# EAGLE library part MTCH6301 (library talons)
MTCH6301 Projected Capacitive Controller 44-pin TQFP package http://www.microchip.com/wwwproducts/Devices.aspx?dDocName=en559101
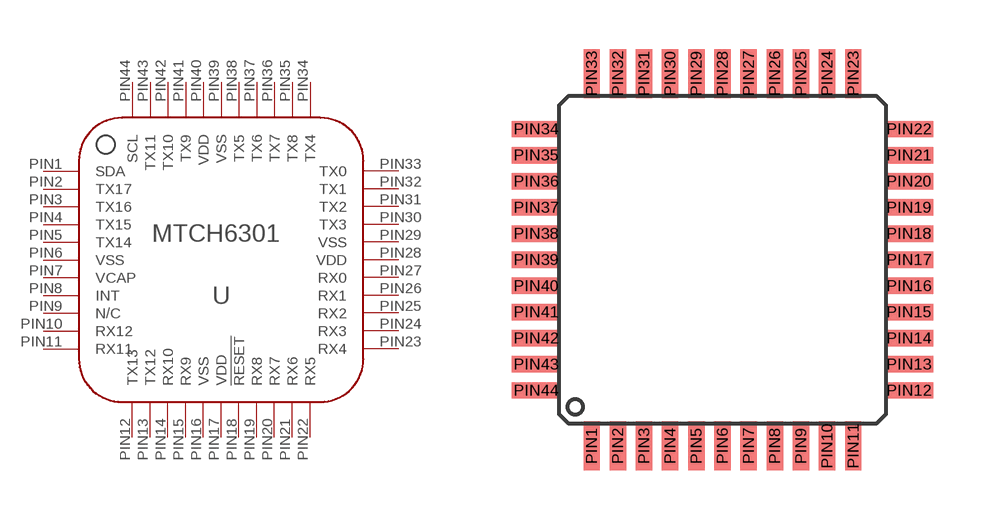
[diagram p0: symbol with the pads of MTCH6301-TQFP; footprint MTCH6301-TQFP]

Designator prefix -

## MTCH6301  [MTCH6301-TQFP]
PIN1  SDA
PIN2  TX17  out
PIN3  TX16  out
PIN4  TX15  out
PIN5  TX14  out
PIN6  VSS  pwr
PIN7  VCAP  pwr
PIN8  INT  out
PIN9  N/C  nc
PIN10  RX12
PIN11  RX11
PIN12  TX13  out
PIN13  TX12  out
PIN14  RX10
PIN15  RX9
PIN16  VSS  pwr
PIN17  VDD  pwr
PIN18  !RESET  in
PIN19  RX8
PIN20  RX7
PIN21  RX6
PIN22  RX5
PIN23  RX4
PIN24  RX3
PIN25  RX2
PIN26  RX1
PIN27  RX0
PIN28  VDD  pwr
PIN29  VSS  pwr
PIN30  TX3  out
PIN31  TX2  out
PIN32  TX1  out
PIN33  TX0  out
PIN34  TX4  out
PIN35  TX8  out
PIN36  TX7  out
PIN37  TX6  out
PIN38  TX5  out
PIN39  VSS  pwr
PIN40  VDD  pwr
PIN41  TX9  out
PIN42  TX10  out
PIN43  TX11  out
PIN44  SCL  in

## Footprint MTCH6301-TQFP (pad centres in mm)
smd 0.5 x 1.5: PIN1 -4,-5.7; PIN2 -3.2,-5.7; PIN3 -2.4,-5.7; PIN4 -1.6,-5.7; PIN5 -0.8,-5.7; PIN6 0,-5.7; PIN7 0.8,-5.7; PIN8 1.6,-5.7; PIN9 2.4,-5.7; PIN10 3.2,-5.7; PIN11 4,-5.7; PIN23 4,5.7; PIN24 3.2,5.7; PIN25 2.4,5.7; PIN26 1.6,5.7; PIN27 0.8,5.7; PIN28 0,5.7; PIN29 -0.8,5.7; PIN30 -1.6,5.7; PIN31 -2.4,5.7; PIN32 -3.2,5.7; PIN33 -4,5.7
smd 1.5 x 0.5: PIN12 5.7,-4; PIN13 5.7,-3.2; PIN14 5.7,-2.4; PIN15 5.7,-1.6; PIN16 5.7,-0.8; PIN17 5.7,0; PIN18 5.7,0.8; PIN19 5.7,1.6; PIN20 5.7,2.4; PIN21 5.7,3.2; PIN22 5.7,4; PIN34 -5.7,4; PIN35 -5.7,3.2; PIN36 -5.7,2.4; PIN37 -5.7,1.6; PIN38 -5.7,0.8; PIN39 -5.7,0; PIN40 -5.7,-0.8; PIN41 -5.7,-1.6; PIN42 -5.7,-2.4; PIN43 -5.7,-3.2; PIN44 -5.7,-4